# EAGLE library part 750342585 (library WE-OLTI)
WE-OLTI Offline Flyback Transformers Characteristics Nominal input voltage: 85–265 VAC (120–375 VDC) Small size Low leakage inductance Multiple-output options Operating temperature: −40 °C to +125 °C Isolation Voltage: 2 kVAC to 5 kVAC Options for fixed frequency or quasi-resonant mode operation Most products meet reinforced insulation Applications Industrial controls USB chargers Utility metering devices Process controls Factory automation Security systems Garage door opener auxiliary supplies Home appliances Especially designed for several ICs from Texas Instruments Details see: www.we-online.com/en/components/products/WE-OLTI Updated by Ella 2026-09-16 2026(C) Würth Elektronik
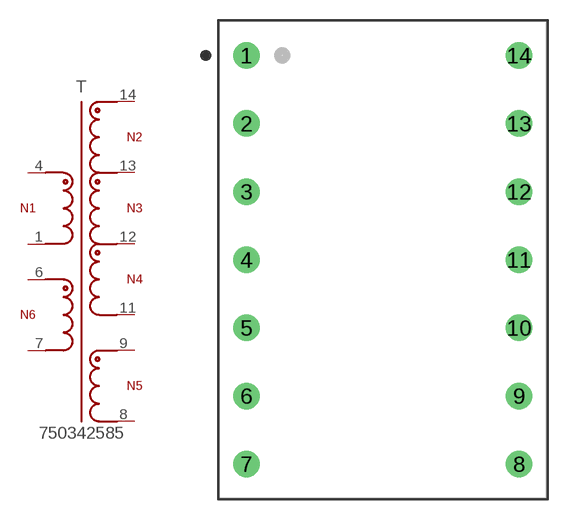
[diagram p27: symbol with the pads of WE-OLTI_ETD29_L35.56W24.38H44.2; footprint WE-OLTI_ETD29_L35.56W24.38H44.2]

Designator prefix T

## 750342585 (AUXILIARY_VOLTAGE_1: 16 V; CATEGORY: Transformers; DATASHEET: https://www.we-online.com/redexpert/spec/750342585?ae; HEIGHT: 44.2 mm; INDUCTANCE: 2500 uH; INPUT_VOLTAGE: 400 - 690 V (AC); INSULATION_TEST_VOLTAGE: 3800 V (AC); LENGTH: 35.56 mm; MANUFACTURER: Würth Elektronik; MOUNT: THT; MPN: 750342585; OUTPUT_CURRENT_1: 2000 mA; OUTPUT_CURRENT_2: 140 mA; OUTPUT_CURRENT_3: 140 mA; OUTPUT_VOLTAGE_1: 24 V; OUTPUT_VOLTAGE_2: 16 V; OUTPUT_VOLTAGE_3: 16 V; SATURATION_CURRENT: 1.25 A; SIZE: ETD29; SWITCHING-FREQUENCY: 68kHz; TURNS_RATIO: 35.5:1:2:2:0.75:2; VALUE: 2500 uH; WIDTH: 24.38 mm)  [WE-OLTI_ETD29_L35.56W24.38H44.2]
1  1  pas
4  4  pas
6  6  pas
7  7  pas
8  8  pas
9  9  pas
11  11  pas
12  12  pas
13  13  pas
14  14  pas

## Footprint WE-OLTI_ETD29_L35.56W24.38H44.2 (pad centres in mm)
WE-OLTI Offline Flyback Transformers Size: ETD29,THT,14pins LXWXH=35.56X24.38X44.2mm Bobbin: 070-4772
drill 1.32: 1 -10.16,15.24; 2 -10.16,10.16; 3 -10.16,5.08; 4 -10.16,0; 5 -10.16,-5.08; 6 -10.16,-10.16; 7 -10.16,-15.24; 8 10.16,-15.24; 9 10.16,-10.16; 10 10.16,-5.08; 11 10.16,0; 12 10.16,5.08; 13 10.16,10.16; 14 10.16,15.24